# Altium footprint library Bumpered QFP - Centre Index.PcbLib: 9 footprints
Each footprint in its own frame and in the unit in brackets; x right, y up, seen from the top. Pads: shape width x height; smd on the part's side, far side on the other; paste and mask are expansions set on the pad; w line width, h text height; cw(c..) or ccw(c..) is an arc to the next point about the centre after c.
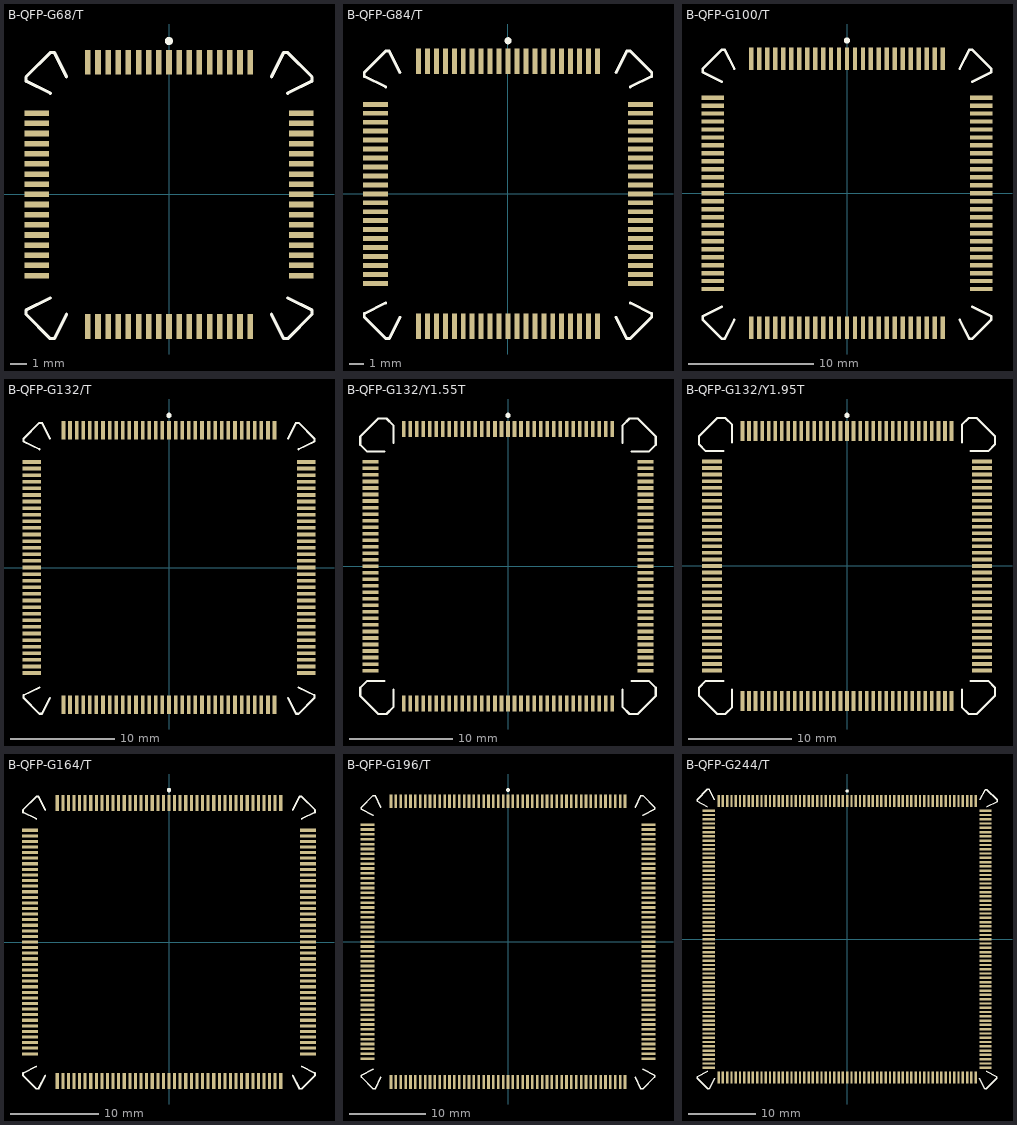
[diagram p0: the footprints below, top view; thin cyan lines are the x and y axes]

## B-QFP-G68/T [mm] "PQFP; 68 Leads; Body 14 x 14 mm; Pitch 0.635 mm"
height 3.04
pads (68):
  rect 0.35x1.55 smd: 1(0,8.275) 2(-0.635,8.275) 3(-1.27,8.275) 4(-1.905,8.275) 5(-2.54,8.275) 6(-3.175,8.275) 7(-3.81,8.275) 8(-4.445,8.275) 9(-5.08,8.275) 27(-5.08,-8.275) 28(-4.445,-8.275) 29(-3.81,-8.275) 30(-3.175,-8.275) 31(-2.54,-8.275) 32(-1.905,-8.275) 33(-1.27,-8.275) 34(-0.635,-8.275) 35(0,-8.275) 36(0.635,-8.275) 37(1.27,-8.275) 38(1.905,-8.275) 39(2.54,-8.275) 40(3.175,-8.275) 41(3.81,-8.275) 42(4.445,-8.275) 43(5.08,-8.275) 61(5.08,8.275) 62(4.445,8.275) 63(3.81,8.275) 64(3.175,8.275) 65(2.54,8.275) 66(1.905,8.275) 67(1.27,8.275) 68(0.635,8.275)
  rect 1.55x0.35 smd: 10(-8.275,5.08) 11(-8.275,4.445) 12(-8.275,3.81) 13(-8.275,3.175) 14(-8.275,2.54) 15(-8.275,1.905) 16(-8.275,1.27) 17(-8.275,0.635) 18(-8.275,0) 19(-8.275,-0.635) 20(-8.275,-1.27) 21(-8.275,-1.905) 22(-8.275,-2.54) 23(-8.275,-3.175) 24(-8.275,-3.81) 25(-8.275,-4.445) 26(-8.275,-5.08) 44(8.275,-5.08) 45(8.275,-4.445) 46(8.275,-3.81) 47(8.275,-3.175) 48(8.275,-2.54) 49(8.275,-1.905) 50(8.275,-1.27) 51(8.275,-0.635) 52(8.275,0) 53(8.275,0.635) 54(8.275,1.27) 55(8.275,1.905) 56(8.275,2.54) 57(8.275,3.175) 58(8.275,3.81) 59(8.275,4.445) 60(8.275,5.08)
Top Overlay:
  circle w0.25: c0,9.6 r0.125
  lines w0.2: -8.95,-7.247 -7.426,-6.485 ; -8.95,-7.229 -8.95,-7.501 -7.426,-9.025 -7.172,-9.025 -6.41,-7.501 ; -8.95,7.079 -8.95,7.351 -7.426,8.875 -7.172,8.875 -6.41,7.351 ; -8.95,7.097 -7.426,6.335 ; 6.41,-7.501 7.172,-9.025 7.426,-9.025 8.95,-7.501 8.95,-7.229 ; 6.41,7.351 7.172,8.875 7.426,8.875 8.95,7.351 8.95,7.079 ; 7.426,-6.485 8.95,-7.247 ; 7.426,6.335 8.95,7.097

## B-QFP-G84/T [mm] "PQFP; 84 Leads; Body 16.5 x 16.5 mm; Pitch 0.635 mm"
height 4.57
pads (84):
  rect 0.35x1.8 smd: 1(0,9.4) 2(-0.635,9.4) 3(-1.27,9.4) 4(-1.905,9.4) 5(-2.54,9.4) 6(-3.175,9.4) 7(-3.81,9.4) 8(-4.445,9.4) 9(-5.08,9.4) 10(-5.715,9.4) 11(-6.35,9.4) 33(-6.35,-9.4) 34(-5.715,-9.4) 35(-5.08,-9.4) 36(-4.445,-9.4) 37(-3.81,-9.4) 38(-3.175,-9.4) 39(-2.54,-9.4) 40(-1.905,-9.4) 41(-1.27,-9.4) 42(-0.635,-9.4) 43(0,-9.4) 44(0.635,-9.4) 45(1.27,-9.4) 46(1.905,-9.4) 47(2.54,-9.4) 48(3.175,-9.4) 49(3.81,-9.4) 50(4.445,-9.4) 51(5.08,-9.4) 52(5.715,-9.4) 53(6.35,-9.4) 75(6.35,9.4) 76(5.715,9.4) 77(5.08,9.4) 78(4.445,9.4) 79(3.81,9.4) 80(3.175,9.4) 81(2.54,9.4) 82(1.905,9.4) 83(1.27,9.4) 84(0.635,9.4)
  rect 1.8x0.35 smd: 12(-9.4,6.35) 13(-9.4,5.715) 14(-9.4,5.08) 15(-9.4,4.445) 16(-9.4,3.81) 17(-9.4,3.175) 18(-9.4,2.54) 19(-9.4,1.905) 20(-9.4,1.27) 21(-9.4,0.635) 22(-9.4,0) 23(-9.4,-0.635) 24(-9.4,-1.27) 25(-9.4,-1.905) 26(-9.4,-2.54) 27(-9.4,-3.175) 28(-9.4,-3.81) 29(-9.4,-4.445) 30(-9.4,-5.08) 31(-9.4,-5.715) 32(-9.4,-6.35) 54(9.4,-6.35) 55(9.4,-5.715) 56(9.4,-5.08) 57(9.4,-4.445) 58(9.4,-3.81) 59(9.4,-3.175) 60(9.4,-2.54) 61(9.4,-1.905) 62(9.4,-1.27) 63(9.4,-0.635) 64(9.4,0) 65(9.4,0.635) 66(9.4,1.27) 67(9.4,1.905) 68(9.4,2.54) 69(9.4,3.175) 70(9.4,3.81) 71(9.4,4.445) 72(9.4,5.08) 73(9.4,5.715) 74(9.4,6.35)
Top Overlay:
  circle w0.25: c0,10.86 r0.125
  lines w0.2: -10.2,-8.497 -8.676,-7.735 ; -10.2,-8.479 -10.2,-8.751 -8.676,-10.275 -8.422,-10.275 -7.66,-8.751 ; -10.2,8.329 -10.2,8.601 -8.676,10.125 -8.422,10.125 -7.66,8.601 ; -10.2,8.347 -8.676,7.585 ; 7.66,-8.751 8.422,-10.275 8.676,-10.275 10.2,-8.751 10.2,-8.479 ; 7.66,8.601 8.422,10.125 8.676,10.125 10.2,8.601 10.2,8.329 ; 8.676,-7.735 10.2,-8.497 ; 8.676,7.585 10.2,8.347

## B-QFP-G100/T [mm] "PQFP; 100 Leads; Body 19 x 19 mm; Pitch 0.635 mm"
height 4.57
pads (100):
  rect 0.35x1.8 smd: 1(0,10.7) 2(-0.635,10.7) 3(-1.27,10.7) 4(-1.905,10.7) 5(-2.54,10.7) 6(-3.175,10.7) 7(-3.81,10.7) 8(-4.445,10.7) 9(-5.08,10.7) 10(-5.715,10.7) 11(-6.35,10.7) 12(-6.985,10.7) 13(-7.62,10.7) 39(-7.62,-10.7) 40(-6.985,-10.7) 41(-6.35,-10.7) 42(-5.715,-10.7) 43(-5.08,-10.7) 44(-4.445,-10.7) 45(-3.81,-10.7) 46(-3.175,-10.7) 47(-2.54,-10.7) 48(-1.905,-10.7) 49(-1.27,-10.7) 50(-0.635,-10.7) 51(0,-10.7) 52(0.635,-10.7) 53(1.27,-10.7) 54(1.905,-10.7) 55(2.54,-10.7) 56(3.175,-10.7) 57(3.81,-10.7) 58(4.445,-10.7) 59(5.08,-10.7) 60(5.715,-10.7) 61(6.35,-10.7) 62(6.985,-10.7) 63(7.62,-10.7) 89(7.62,10.7) 90(6.985,10.7) 91(6.35,10.7) 92(5.715,10.7) 93(5.08,10.7) 94(4.445,10.7) 95(3.81,10.7) 96(3.175,10.7) 97(2.54,10.7) 98(1.905,10.7) 99(1.27,10.7) 100(0.635,10.7)
  rect 1.8x0.35 smd: 14(-10.7,7.62) 15(-10.7,6.985) 16(-10.7,6.35) 17(-10.7,5.715) 18(-10.7,5.08) 19(-10.7,4.445) 20(-10.7,3.81) 21(-10.7,3.175) 22(-10.7,2.54) 23(-10.7,1.905) 24(-10.7,1.27) 25(-10.7,0.635) 26(-10.7,0) 27(-10.7,-0.635) 28(-10.7,-1.27) 29(-10.7,-1.905) 30(-10.7,-2.54) 31(-10.7,-3.175) 32(-10.7,-3.81) 33(-10.7,-4.445) 34(-10.7,-5.08) 35(-10.7,-5.715) 36(-10.7,-6.35) 37(-10.7,-6.985) 38(-10.7,-7.62) 64(10.7,-7.62) 65(10.7,-6.985) 66(10.7,-6.35) 67(10.7,-5.715) 68(10.7,-5.08) 69(10.7,-4.445) 70(10.7,-3.81) 71(10.7,-3.175) 72(10.7,-2.54) 73(10.7,-1.905) 74(10.7,-1.27) 75(10.7,-0.635) 76(10.7,0) 77(10.7,0.635) 78(10.7,1.27) 79(10.7,1.905) 80(10.7,2.54) 81(10.7,3.175) 82(10.7,3.81) 83(10.7,4.445) 84(10.7,5.08) 85(10.7,5.715) 86(10.7,6.35) 87(10.7,6.985) 88(10.7,7.62)
Top Overlay:
  circle w0.25: c0,12.16 r0.125
  lines w0.2: -11.5,-9.797 -9.976,-9.035 ; -11.5,-9.779 -11.5,-10.051 -9.976,-11.575 -9.722,-11.575 -8.96,-10.051 ; -11.5,9.629 -11.5,9.901 -9.976,11.425 -9.722,11.425 -8.96,9.901 ; -11.5,9.647 -9.976,8.885 ; 8.96,-10.051 9.722,-11.575 9.976,-11.575 11.5,-10.051 11.5,-9.779 ; 8.96,9.901 9.722,11.425 9.976,11.425 11.5,9.901 11.5,9.629 ; 9.976,-9.035 11.5,-9.797 ; 9.976,8.885 11.5,9.647

## B-QFP-G132/T [mm] "PQFP; 132 Leads; Body 24 x 24 mm; Pitch 0.635 mm"
height 4.57
pads (132):
  rect 0.35x1.8 smd: 1(0,13.2) 2(-0.635,13.2) 3(-1.27,13.2) 4(-1.905,13.2) 5(-2.54,13.2) 6(-3.175,13.2) 7(-3.81,13.2) 8(-4.445,13.2) 9(-5.08,13.2) 10(-5.715,13.2) 11(-6.35,13.2) 12(-6.985,13.2) 13(-7.62,13.2) 14(-8.255,13.2) 15(-8.89,13.2) 16(-9.525,13.2) 17(-10.16,13.2) 51(-10.16,-13.2) 52(-9.525,-13.2) 53(-8.89,-13.2) 54(-8.255,-13.2) 55(-7.62,-13.2) 56(-6.985,-13.2) 57(-6.35,-13.2) 58(-5.715,-13.2) 59(-5.08,-13.2) 60(-4.445,-13.2) 61(-3.81,-13.2) 62(-3.175,-13.2) 63(-2.54,-13.2) 64(-1.905,-13.2) 65(-1.27,-13.2) 66(-0.635,-13.2) 67(0,-13.2) 68(0.635,-13.2) 69(1.27,-13.2) 70(1.905,-13.2) 71(2.54,-13.2) 72(3.175,-13.2) 73(3.81,-13.2) 74(4.445,-13.2) 75(5.08,-13.2) 76(5.715,-13.2) 77(6.35,-13.2) 78(6.985,-13.2) 79(7.62,-13.2) 80(8.255,-13.2) 81(8.89,-13.2) 82(9.525,-13.2) 83(10.16,-13.2) 117(10.16,13.2) 118(9.525,13.2) 119(8.89,13.2) 120(8.255,13.2) 121(7.62,13.2) 122(6.985,13.2) 123(6.35,13.2) 124(5.715,13.2) 125(5.08,13.2) 126(4.445,13.2) 127(3.81,13.2) 128(3.175,13.2) 129(2.54,13.2) 130(1.905,13.2) 131(1.27,13.2) 132(0.635,13.2)
  rect 1.8x0.35 smd: 18(-13.2,10.16) 19(-13.2,9.525) 20(-13.2,8.89) 21(-13.2,8.255) 22(-13.2,7.62) 23(-13.2,6.985) 24(-13.2,6.35) 25(-13.2,5.715) 26(-13.2,5.08) 27(-13.2,4.445) 28(-13.2,3.81) 29(-13.2,3.175) 30(-13.2,2.54) 31(-13.2,1.905) 32(-13.2,1.27) 33(-13.2,0.635) 34(-13.2,0) 35(-13.2,-0.635) 36(-13.2,-1.27) 37(-13.2,-1.905) 38(-13.2,-2.54) 39(-13.2,-3.175) 40(-13.2,-3.81) 41(-13.2,-4.445) 42(-13.2,-5.08) 43(-13.2,-5.715) 44(-13.2,-6.35) 45(-13.2,-6.985) 46(-13.2,-7.62) 47(-13.2,-8.255) 48(-13.2,-8.89) 49(-13.2,-9.525) 50(-13.2,-10.16) 84(13.2,-10.16) 85(13.2,-9.525) 86(13.2,-8.89) 87(13.2,-8.255) 88(13.2,-7.62) 89(13.2,-6.985) 90(13.2,-6.35) 91(13.2,-5.715) 92(13.2,-5.08) 93(13.2,-4.445) 94(13.2,-3.81) 95(13.2,-3.175) 96(13.2,-2.54) 97(13.2,-1.905) 98(13.2,-1.27) 99(13.2,-0.635) 100(13.2,0) 101(13.2,0.635) 102(13.2,1.27) 103(13.2,1.905) 104(13.2,2.54) 105(13.2,3.175) 106(13.2,3.81) 107(13.2,4.445) 108(13.2,5.08) 109(13.2,5.715) 110(13.2,6.35) 111(13.2,6.985) 112(13.2,7.62) 113(13.2,8.255) 114(13.2,8.89) 115(13.2,9.525) 116(13.2,10.16)
Top Overlay:
  circle w0.25: c0,14.65 r0.125
  lines w0.2: -14,-12.297 -12.476,-11.535 ; -14,-12.279 -14,-12.551 -12.476,-14.075 -12.222,-14.075 -11.46,-12.551 ; -14,12.129 -14,12.401 -12.476,13.925 -12.222,13.925 -11.46,12.401 ; -14,12.147 -12.476,11.385 ; 11.46,-12.551 12.222,-14.075 12.476,-14.075 14,-12.551 14,-12.279 ; 11.46,12.401 12.222,13.925 12.476,13.925 14,12.401 14,12.129 ; 12.476,-11.535 14,-12.297 ; 12.476,11.385 14,12.147

## B-QFP-G132/Y1.55T [mm] "Bumpered PQFP; 132 Leads; Pitch 0.635 mm;"
height 5.59
pads (132):
  rect 0.35x1.55 smd: 1(0,13.375) 2(-0.635,13.375) 3(-1.27,13.375) 4(-1.905,13.375) 5(-2.54,13.375) 6(-3.175,13.375) 7(-3.81,13.375) 8(-4.445,13.375) 9(-5.08,13.375) 10(-5.715,13.375) 11(-6.35,13.375) 12(-6.985,13.375) 13(-7.62,13.375) 14(-8.255,13.375) 15(-8.89,13.375) 16(-9.525,13.375) 17(-10.16,13.375) 51(-10.16,-13.375) 52(-9.525,-13.375) 53(-8.89,-13.375) 54(-8.255,-13.375) 55(-7.62,-13.375) 56(-6.985,-13.375) 57(-6.35,-13.375) 58(-5.715,-13.375) 59(-5.08,-13.375) 60(-4.445,-13.375) 61(-3.81,-13.375) 62(-3.175,-13.375) 63(-2.54,-13.375) 64(-1.905,-13.375) 65(-1.27,-13.375) 66(-0.635,-13.375) 67(0,-13.375) 68(0.635,-13.375) 69(1.27,-13.375) 70(1.905,-13.375) 71(2.54,-13.375) 72(3.175,-13.375) 73(3.81,-13.375) 74(4.445,-13.375) 75(5.08,-13.375) 76(5.715,-13.375) 77(6.35,-13.375) 78(6.985,-13.375) 79(7.62,-13.375) 80(8.255,-13.375) 81(8.89,-13.375) 82(9.525,-13.375) 83(10.16,-13.375) 117(10.16,13.375) 118(9.525,13.375) 119(8.89,13.375) 120(8.255,13.375) 121(7.62,13.375) 122(6.985,13.375) 123(6.35,13.375) 124(5.715,13.375) 125(5.08,13.375) 126(4.445,13.375) 127(3.81,13.375) 128(3.175,13.375) 129(2.54,13.375) 130(1.905,13.375) 131(1.27,13.375) 132(0.635,13.375)
  rect 1.55x0.35 smd: 18(-13.375,10.16) 19(-13.375,9.525) 20(-13.375,8.89) 21(-13.375,8.255) 22(-13.375,7.62) 23(-13.375,6.985) 24(-13.375,6.35) 25(-13.375,5.715) 26(-13.375,5.08) 27(-13.375,4.445) 28(-13.375,3.81) 29(-13.375,3.175) 30(-13.375,2.54) 31(-13.375,1.905) 32(-13.375,1.27) 33(-13.375,0.635) 34(-13.375,0) 35(-13.375,-0.635) 36(-13.375,-1.27) 37(-13.375,-1.905) 38(-13.375,-2.54) 39(-13.375,-3.175) 40(-13.375,-3.81) 41(-13.375,-4.445) 42(-13.375,-5.08) 43(-13.375,-5.715) 44(-13.375,-6.35) 45(-13.375,-6.985) 46(-13.375,-7.62) 47(-13.375,-8.255) 48(-13.375,-8.89) 49(-13.375,-9.525) 50(-13.375,-10.16) 84(13.375,-10.16) 85(13.375,-9.525) 86(13.375,-8.89) 87(13.375,-8.255) 88(13.375,-7.62) 89(13.375,-6.985) 90(13.375,-6.35) 91(13.375,-5.715) 92(13.375,-5.08) 93(13.375,-4.445) 94(13.375,-3.81) 95(13.375,-3.175) 96(13.375,-2.54) 97(13.375,-1.905) 98(13.375,-1.27) 99(13.375,-0.635) 100(13.375,0) 101(13.375,0.635) 102(13.375,1.27) 103(13.375,1.905) 104(13.375,2.54) 105(13.375,3.175) 106(13.375,3.81) 107(13.375,4.445) 108(13.375,5.08) 109(13.375,5.715) 110(13.375,6.35) 111(13.375,6.985) 112(13.375,7.62) 113(13.375,8.255) 114(13.375,8.89) 115(13.375,9.525) 116(13.375,10.16)
Top Overlay:
  circle w0.25: c0,14.7 r0.125
  lines w0.2: -12.02,-11.16 -13.717,-11.16 -14.387,-11.83 -14.387,-12.63 -12.63,-14.387 -11.83,-14.387 -11.16,-13.717 -11.16,-12.02 ; -12.02,11.16 -13.718,11.16 -14.387,11.83 -14.387,12.63 -12.63,14.388 -11.83,14.388 -11.16,13.718 -11.16,12.02 ; 11.16,-12.02 11.16,-13.717 11.83,-14.387 12.63,-14.387 14.387,-12.63 14.387,-11.83 13.718,-11.16 12.02,-11.16 ; 11.16,12.02 11.16,13.718 11.83,14.388 12.63,14.388 14.387,12.63 14.387,11.83 13.717,11.16 12.02,11.16

## B-QFP-G132/Y1.95T [mm] "PQFP; 132 Leads; Body 24 x 24 mm; Pitch 0.635 mm"
height 4.57
pads (132):
  rect 0.35x1.95 smd: 1(0,13.125) 2(-0.635,13.125) 3(-1.27,13.125) 4(-1.905,13.125) 5(-2.54,13.125) 6(-3.175,13.125) 7(-3.81,13.125) 8(-4.445,13.125) 9(-5.08,13.125) 10(-5.715,13.125) 11(-6.35,13.125) 12(-6.985,13.125) 13(-7.62,13.125) 14(-8.255,13.125) 15(-8.89,13.125) 16(-9.525,13.125) 17(-10.16,13.125) 51(-10.16,-13.125) 52(-9.525,-13.125) 53(-8.89,-13.125) 54(-8.255,-13.125) 55(-7.62,-13.125) 56(-6.985,-13.125) 57(-6.35,-13.125) 58(-5.715,-13.125) 59(-5.08,-13.125) 60(-4.445,-13.125) 61(-3.81,-13.125) 62(-3.175,-13.125) 63(-2.54,-13.125) 64(-1.905,-13.125) 65(-1.27,-13.125) 66(-0.635,-13.125) 67(0,-13.125) 68(0.635,-13.125) 69(1.27,-13.125) 70(1.905,-13.125) 71(2.54,-13.125) 72(3.175,-13.125) 73(3.81,-13.125) 74(4.445,-13.125) 75(5.08,-13.125) 76(5.715,-13.125) 77(6.35,-13.125) 78(6.985,-13.125) 79(7.62,-13.125) 80(8.255,-13.125) 81(8.89,-13.125) 82(9.525,-13.125) 83(10.16,-13.125) 117(10.16,13.125) 118(9.525,13.125) 119(8.89,13.125) 120(8.255,13.125) 121(7.62,13.125) 122(6.985,13.125) 123(6.35,13.125) 124(5.715,13.125) 125(5.08,13.125) 126(4.445,13.125) 127(3.81,13.125) 128(3.175,13.125) 129(2.54,13.125) 130(1.905,13.125) 131(1.27,13.125) 132(0.635,13.125)
  rect 1.95x0.35 smd: 18(-13.125,10.16) 19(-13.125,9.525) 20(-13.125,8.89) 21(-13.125,8.255) 22(-13.125,7.62) 23(-13.125,6.985) 24(-13.125,6.35) 25(-13.125,5.715) 26(-13.125,5.08) 27(-13.125,4.445) 28(-13.125,3.81) 29(-13.125,3.175) 30(-13.125,2.54) 31(-13.125,1.905) 32(-13.125,1.27) 33(-13.125,0.635) 34(-13.125,0) 35(-13.125,-0.635) 36(-13.125,-1.27) 37(-13.125,-1.905) 38(-13.125,-2.54) 39(-13.125,-3.175) 40(-13.125,-3.81) 41(-13.125,-4.445) 42(-13.125,-5.08) 43(-13.125,-5.715) 44(-13.125,-6.35) 45(-13.125,-6.985) 46(-13.125,-7.62) 47(-13.125,-8.255) 48(-13.125,-8.89) 49(-13.125,-9.525) 50(-13.125,-10.16) 84(13.125,-10.16) 85(13.125,-9.525) 86(13.125,-8.89) 87(13.125,-8.255) 88(13.125,-7.62) 89(13.125,-6.985) 90(13.125,-6.35) 91(13.125,-5.715) 92(13.125,-5.08) 93(13.125,-4.445) 94(13.125,-3.81) 95(13.125,-3.175) 96(13.125,-2.54) 97(13.125,-1.905) 98(13.125,-1.27) 99(13.125,-0.635) 100(13.125,0) 101(13.125,0.635) 102(13.125,1.27) 103(13.125,1.905) 104(13.125,2.54) 105(13.125,3.175) 106(13.125,3.81) 107(13.125,4.445) 108(13.125,5.08) 109(13.125,5.715) 110(13.125,6.35) 111(13.125,6.985) 112(13.125,7.62) 113(13.125,8.255) 114(13.125,8.89) 115(13.125,9.525) 116(13.125,10.16)
Top Overlay:
  circle w0.25: c0,14.65 r0.125
  lines w0.2: -12.02,-11.16 -13.718,-11.16 -14.388,-11.83 -14.388,-12.63 -12.63,-14.387 -11.83,-14.387 -11.16,-13.717 -11.16,-12.02 ; -12.02,11.16 -13.718,11.16 -14.388,11.83 -14.388,12.63 -12.63,14.388 -11.83,14.388 -11.16,13.718 -11.16,12.02 ; 11.16,-12.02 11.16,-13.717 11.83,-14.387 12.63,-14.387 14.387,-12.63 14.387,-11.83 13.717,-11.16 12.02,-11.16 ; 11.16,12.02 11.16,13.718 11.83,14.388 12.63,14.388 14.387,12.63 14.387,11.83 13.717,11.16 12.02,11.16

## B-QFP-G164/T [mm] "PQFP; 164 Leads; Body 29 x 29 mm; Pitch 0.635 mm"
height 4.75
pads (164):
  rect 0.35x1.8 smd: 1(0,15.8) 2(-0.635,15.8) 3(-1.27,15.8) 4(-1.905,15.8) 5(-2.54,15.8) 6(-3.175,15.8) 7(-3.81,15.8) 8(-4.445,15.8) 9(-5.08,15.8) 10(-5.715,15.8) 11(-6.35,15.8) 12(-6.985,15.8) 13(-7.62,15.8) 14(-8.255,15.8) 15(-8.89,15.8) 16(-9.525,15.8) 17(-10.16,15.8) 18(-10.795,15.8) 19(-11.43,15.8) 20(-12.065,15.8) 21(-12.7,15.8) 63(-12.7,-15.8) 64(-12.065,-15.8) 65(-11.43,-15.8) 66(-10.795,-15.8) 67(-10.16,-15.8) 68(-9.525,-15.8) 69(-8.89,-15.8) 70(-8.255,-15.8) 71(-7.62,-15.8) 72(-6.985,-15.8) 73(-6.35,-15.8) 74(-5.715,-15.8) 75(-5.08,-15.8) 76(-4.445,-15.8) 77(-3.81,-15.8) 78(-3.175,-15.8) 79(-2.54,-15.8) 80(-1.905,-15.8) 81(-1.27,-15.8) 82(-0.635,-15.8) 83(0,-15.8) 84(0.635,-15.8) 85(1.27,-15.8) 86(1.905,-15.8) 87(2.54,-15.8) 88(3.175,-15.8) 89(3.81,-15.8) 90(4.445,-15.8) 91(5.08,-15.8) 92(5.715,-15.8) 93(6.35,-15.8) 94(6.985,-15.8) 95(7.62,-15.8) 96(8.255,-15.8) 97(8.89,-15.8) 98(9.525,-15.8) 99(10.16,-15.8) 100(10.795,-15.8) 101(11.43,-15.8) 102(12.065,-15.8) 103(12.7,-15.8) 145(12.7,15.8) 146(12.065,15.8) 147(11.43,15.8) 148(10.795,15.8) 149(10.16,15.8) 150(9.525,15.8) 151(8.89,15.8) 152(8.255,15.8) 153(7.62,15.8) 154(6.985,15.8) 155(6.35,15.8) 156(5.715,15.8) 157(5.08,15.8) 158(4.445,15.8) 159(3.81,15.8) 160(3.175,15.8) 161(2.54,15.8) 162(1.905,15.8) 163(1.27,15.8) 164(0.635,15.8)
  rect 1.8x0.35 smd: 22(-15.8,12.7) 23(-15.8,12.065) 24(-15.8,11.43) 25(-15.8,10.795) 26(-15.8,10.16) 27(-15.8,9.525) 28(-15.8,8.89) 29(-15.8,8.255) 30(-15.8,7.62) 31(-15.8,6.985) 32(-15.8,6.35) 33(-15.8,5.715) 34(-15.8,5.08) 35(-15.8,4.445) 36(-15.8,3.81) 37(-15.8,3.175) 38(-15.8,2.54) 39(-15.8,1.905) 40(-15.8,1.27) 41(-15.8,0.635) 42(-15.8,0) 43(-15.8,-0.635) 44(-15.8,-1.27) 45(-15.8,-1.905) 46(-15.8,-2.54) 47(-15.8,-3.175) 48(-15.8,-3.81) 49(-15.8,-4.445) 50(-15.8,-5.08) 51(-15.8,-5.715) 52(-15.8,-6.35) 53(-15.8,-6.985) 54(-15.8,-7.62) 55(-15.8,-8.255) 56(-15.8,-8.89) 57(-15.8,-9.525) 58(-15.8,-10.16) 59(-15.8,-10.795) 60(-15.8,-11.43) 61(-15.8,-12.065) 62(-15.8,-12.7) 104(15.8,-12.7) 105(15.8,-12.065) 106(15.8,-11.43) 107(15.8,-10.795) 108(15.8,-10.16) 109(15.8,-9.525) 110(15.8,-8.89) 111(15.8,-8.255) 112(15.8,-7.62) 113(15.8,-6.985) 114(15.8,-6.35) 115(15.8,-5.715) 116(15.8,-5.08) 117(15.8,-4.445) 118(15.8,-3.81) 119(15.8,-3.175) 120(15.8,-2.54) 121(15.8,-1.905) 122(15.8,-1.27) 123(15.8,-0.635) 124(15.8,0) 125(15.8,0.635) 126(15.8,1.27) 127(15.8,1.905) 128(15.8,2.54) 129(15.8,3.175) 130(15.8,3.81) 131(15.8,4.445) 132(15.8,5.08) 133(15.8,5.715) 134(15.8,6.35) 135(15.8,6.985) 136(15.8,7.62) 137(15.8,8.255) 138(15.8,8.89) 139(15.8,9.525) 140(15.8,10.16) 141(15.8,10.795) 142(15.8,11.43) 143(15.8,12.065) 144(15.8,12.7)
Top Overlay:
  circle w0.25: c0,17.26 r0.125
  lines w0.2: -16.6,-14.897 -15.076,-14.135 ; -16.6,-14.879 -16.6,-15.151 -15.076,-16.675 -14.822,-16.675 -14.06,-15.151 ; -16.6,14.729 -16.6,15.001 -15.076,16.525 -14.822,16.525 -14.06,15.001 ; -16.6,14.747 -15.076,13.985 ; 14.06,-15.151 14.822,-16.675 15.076,-16.675 16.6,-15.151 16.6,-14.879 ; 14.06,15.001 14.822,16.525 15.076,16.525 16.6,15.001 16.6,14.729 ; 15.076,-14.135 16.6,-14.897 ; 15.076,13.985 16.6,14.747

## B-QFP-G196/T [mm] "PQFP; 196 Leads; Body 34 x 34 mm; Pitch 0.635 mm"
height 4.57
pads (196):
  rect 0.35x1.8 smd: 1(0,18.3) 2(-0.635,18.3) 3(-1.27,18.3) 4(-1.905,18.3) 5(-2.54,18.3) 6(-3.175,18.3) 7(-3.81,18.3) 8(-4.445,18.3) 9(-5.08,18.3) 10(-5.715,18.3) 11(-6.35,18.3) 12(-6.985,18.3) 13(-7.62,18.3) 14(-8.255,18.3) 15(-8.89,18.3) 16(-9.525,18.3) 17(-10.16,18.3) 18(-10.795,18.3) 19(-11.43,18.3) 20(-12.065,18.3) 21(-12.7,18.3) 22(-13.335,18.3) 23(-13.97,18.3) 24(-14.605,18.3) 25(-15.24,18.3) 75(-15.24,-18.3) 76(-14.605,-18.3) 77(-13.97,-18.3) 78(-13.335,-18.3) 79(-12.7,-18.3) 80(-12.065,-18.3) 81(-11.43,-18.3) 82(-10.795,-18.3) 83(-10.16,-18.3) 84(-9.525,-18.3) 85(-8.89,-18.3) 86(-8.255,-18.3) 87(-7.62,-18.3) 88(-6.985,-18.3) 89(-6.35,-18.3) 90(-5.715,-18.3) 91(-5.08,-18.3) 92(-4.445,-18.3) 93(-3.81,-18.3) 94(-3.175,-18.3) 95(-2.54,-18.3) 96(-1.905,-18.3) 97(-1.27,-18.3) 98(-0.635,-18.3) 99(0,-18.3) 100(0.635,-18.3) 101(1.27,-18.3) 102(1.905,-18.3) 103(2.54,-18.3) 104(3.175,-18.3) 105(3.81,-18.3) 106(4.445,-18.3) 107(5.08,-18.3) 108(5.715,-18.3) 109(6.35,-18.3) 110(6.985,-18.3) 111(7.62,-18.3) 112(8.255,-18.3) 113(8.89,-18.3) 114(9.525,-18.3) 115(10.16,-18.3) 116(10.795,-18.3) 117(11.43,-18.3) 118(12.065,-18.3) 119(12.7,-18.3) 120(13.335,-18.3) 121(13.97,-18.3) 122(14.605,-18.3) 123(15.24,-18.3) 173(15.24,18.3) 174(14.605,18.3) 175(13.97,18.3) 176(13.335,18.3) 177(12.7,18.3) 178(12.065,18.3) 179(11.43,18.3) 180(10.795,18.3) 181(10.16,18.3) 182(9.525,18.3) 183(8.89,18.3) 184(8.255,18.3) 185(7.62,18.3) 186(6.985,18.3) 187(6.35,18.3) 188(5.715,18.3) 189(5.08,18.3) 190(4.445,18.3) 191(3.81,18.3) 192(3.175,18.3) 193(2.54,18.3) 194(1.905,18.3) 195(1.27,18.3) 196(0.635,18.3)
  rect 1.8x0.35 smd: 26(-18.3,15.24) 27(-18.3,14.605) 28(-18.3,13.97) 29(-18.3,13.335) 30(-18.3,12.7) 31(-18.3,12.065) 32(-18.3,11.43) 33(-18.3,10.795) 34(-18.3,10.16) 35(-18.3,9.525) 36(-18.3,8.89) 37(-18.3,8.255) 38(-18.3,7.62) 39(-18.3,6.985) 40(-18.3,6.35) 41(-18.3,5.715) 42(-18.3,5.08) 43(-18.3,4.445) 44(-18.3,3.81) 45(-18.3,3.175) 46(-18.3,2.54) 47(-18.3,1.905) 48(-18.3,1.27) 49(-18.3,0.635) 50(-18.3,0) 51(-18.3,-0.635) 52(-18.3,-1.27) 53(-18.3,-1.905) 54(-18.3,-2.54) 55(-18.3,-3.175) 56(-18.3,-3.81) 57(-18.3,-4.445) 58(-18.3,-5.08) 59(-18.3,-5.715) 60(-18.3,-6.35) 61(-18.3,-6.985) 62(-18.3,-7.62) 63(-18.3,-8.255) 64(-18.3,-8.89) 65(-18.3,-9.525) 66(-18.3,-10.16) 67(-18.3,-10.795) 68(-18.3,-11.43) 69(-18.3,-12.065) 70(-18.3,-12.7) 71(-18.3,-13.335) 72(-18.3,-13.97) 73(-18.3,-14.605) 74(-18.3,-15.24) 124(18.3,-15.24) 125(18.3,-14.605) 126(18.3,-13.97) 127(18.3,-13.335) 128(18.3,-12.7) 129(18.3,-12.065) 130(18.3,-11.43) 131(18.3,-10.795) 132(18.3,-10.16) 133(18.3,-9.525) 134(18.3,-8.89) 135(18.3,-8.255) 136(18.3,-7.62) 137(18.3,-6.985) 138(18.3,-6.35) 139(18.3,-5.715) 140(18.3,-5.08) 141(18.3,-4.445) 142(18.3,-3.81) 143(18.3,-3.175) 144(18.3,-2.54) 145(18.3,-1.905) 146(18.3,-1.27) 147(18.3,-0.635) 148(18.3,0) 149(18.3,0.635) 150(18.3,1.27) 151(18.3,1.905) 152(18.3,2.54) 153(18.3,3.175) 154(18.3,3.81) 155(18.3,4.445) 156(18.3,5.08) 157(18.3,5.715) 158(18.3,6.35) 159(18.3,6.985) 160(18.3,7.62) 161(18.3,8.255) 162(18.3,8.89) 163(18.3,9.525) 164(18.3,10.16) 165(18.3,10.795) 166(18.3,11.43) 167(18.3,12.065) 168(18.3,12.7) 169(18.3,13.335) 170(18.3,13.97) 171(18.3,14.605) 172(18.3,15.24)
Top Overlay:
  circle w0.25: c0,19.76 r0.125
  lines w0.2: -19.1,-17.397 -17.576,-16.635 ; -19.1,-17.379 -19.1,-17.651 -17.576,-19.175 -17.322,-19.175 -16.56,-17.651 ; -19.1,17.229 -19.1,17.501 -17.576,19.025 -17.322,19.025 -16.56,17.501 ; -19.1,17.247 -17.576,16.485 ; 16.56,-17.651 17.322,-19.175 17.576,-19.175 19.1,-17.651 19.1,-17.379 ; 16.56,17.501 17.322,19.025 17.576,19.025 19.1,17.501 19.1,17.229 ; 17.576,-16.635 19.1,-17.397 ; 17.576,16.485 19.1,17.247

## B-QFP-G244/T [mm] "PQFP; 244 Leads; Body 45 x 45 mm; Pitch 0.635 mm"
height 4.57
pads (244):
  rect 0.35x1.8 smd: 1(0,20.5) 2(-0.635,20.5) 3(-1.27,20.5) 4(-1.905,20.5) 5(-2.54,20.5) 6(-3.175,20.5) 7(-3.81,20.5) 8(-4.445,20.5) 9(-5.08,20.5) 10(-5.715,20.5) 11(-6.35,20.5) 12(-6.985,20.5) 13(-7.62,20.5) 14(-8.255,20.5) 15(-8.89,20.5) 16(-9.525,20.5) 17(-10.16,20.5) 18(-10.795,20.5) 19(-11.43,20.5) 20(-12.065,20.5) 21(-12.7,20.5) 22(-13.335,20.5) 23(-13.97,20.5) 24(-14.605,20.5) 25(-15.24,20.5) 26(-15.875,20.5) 27(-16.51,20.5) 28(-17.145,20.5) 29(-17.78,20.5) 30(-18.415,20.5) 31(-19.05,20.5) 93(-19.05,-20.5) 94(-18.415,-20.5) 95(-17.78,-20.5) 96(-17.145,-20.5) 97(-16.51,-20.5) 98(-15.875,-20.5) 99(-15.24,-20.5) 100(-14.605,-20.5) 101(-13.97,-20.5) 102(-13.335,-20.5) 103(-12.7,-20.5) 104(-12.065,-20.5) 105(-11.43,-20.5) 106(-10.795,-20.5) 107(-10.16,-20.5) 108(-9.525,-20.5) 109(-8.89,-20.5) 110(-8.255,-20.5) 111(-7.62,-20.5) 112(-6.985,-20.5) 113(-6.35,-20.5) 114(-5.715,-20.5) 115(-5.08,-20.5) 116(-4.445,-20.5) 117(-3.81,-20.5) 118(-3.175,-20.5) 119(-2.54,-20.5) 120(-1.905,-20.5) 121(-1.27,-20.5) 122(-0.635,-20.5) 123(0,-20.5) 124(0.635,-20.5) 125(1.27,-20.5) 126(1.905,-20.5) 127(2.54,-20.5) 128(3.175,-20.5) 129(3.81,-20.5) 130(4.445,-20.5) 131(5.08,-20.5) 132(5.715,-20.5) 133(6.35,-20.5) 134(6.985,-20.5) 135(7.62,-20.5) 136(8.255,-20.5) 137(8.89,-20.5) 138(9.525,-20.5) 139(10.16,-20.5) 140(10.795,-20.5) 141(11.43,-20.5) 142(12.065,-20.5) 143(12.7,-20.5) 144(13.335,-20.5) 145(13.97,-20.5) 146(14.605,-20.5) 147(15.24,-20.5) 148(15.875,-20.5) 149(16.51,-20.5) 150(17.145,-20.5) 151(17.78,-20.5) 152(18.415,-20.5) 153(19.05,-20.5) 215(19.05,20.5) 216(18.415,20.5) 217(17.78,20.5) 218(17.145,20.5) 219(16.51,20.5) 220(15.875,20.5) 221(15.24,20.5) 222(14.605,20.5) 223(13.97,20.5) 224(13.335,20.5) 225(12.7,20.5) 226(12.065,20.5) 227(11.43,20.5) 228(10.795,20.5) 229(10.16,20.5) 230(9.525,20.5) 231(8.89,20.5) 232(8.255,20.5) 233(7.62,20.5) 234(6.985,20.5) 235(6.35,20.5) 236(5.715,20.5) 237(5.08,20.5) 238(4.445,20.5) 239(3.81,20.5) 240(3.175,20.5) 241(2.54,20.5) 242(1.905,20.5) 243(1.27,20.5) 244(0.635,20.5)
  rect 1.8x0.35 smd: 32(-20.5,19.05) 33(-20.5,18.415) 34(-20.5,17.78) 35(-20.5,17.145) 36(-20.5,16.51) 37(-20.5,15.875) 38(-20.5,15.24) 39(-20.5,14.605) 40(-20.5,13.97) 41(-20.5,13.335) 42(-20.5,12.7) 43(-20.5,12.065) 44(-20.5,11.43) 45(-20.5,10.795) 46(-20.5,10.16) 47(-20.5,9.525) 48(-20.5,8.89) 49(-20.5,8.255) 50(-20.5,7.62) 51(-20.5,6.985) 52(-20.5,6.35) 53(-20.5,5.715) 54(-20.5,5.08) 55(-20.5,4.445) 56(-20.5,3.81) 57(-20.5,3.175) 58(-20.5,2.54) 59(-20.5,1.905) 60(-20.5,1.27) 61(-20.5,0.635) 62(-20.5,0) 63(-20.5,-0.635) 64(-20.5,-1.27) 65(-20.5,-1.905) 66(-20.5,-2.54) 67(-20.5,-3.175) 68(-20.5,-3.81) 69(-20.5,-4.445) 70(-20.5,-5.08) 71(-20.5,-5.715) 72(-20.5,-6.35) 73(-20.5,-6.985) 74(-20.5,-7.62) 75(-20.5,-8.255) 76(-20.5,-8.89) 77(-20.5,-9.525) 78(-20.5,-10.16) 79(-20.5,-10.795) 80(-20.5,-11.43) 81(-20.5,-12.065) 82(-20.5,-12.7) 83(-20.5,-13.335) 84(-20.5,-13.97) 85(-20.5,-14.605) 86(-20.5,-15.24) 87(-20.5,-15.875) 88(-20.5,-16.51) 89(-20.5,-17.145) 90(-20.5,-17.78) 91(-20.5,-18.415) 92(-20.5,-19.05) 154(20.5,-19.05) 155(20.5,-18.415) 156(20.5,-17.78) 157(20.5,-17.145) 158(20.5,-16.51) 159(20.5,-15.875) 160(20.5,-15.24) 161(20.5,-14.605) 162(20.5,-13.97) 163(20.5,-13.335) 164(20.5,-12.7) 165(20.5,-12.065) 166(20.5,-11.43) 167(20.5,-10.795) 168(20.5,-10.16) 169(20.5,-9.525) 170(20.5,-8.89) 171(20.5,-8.255) 172(20.5,-7.62) 173(20.5,-6.985) 174(20.5,-6.35) 175(20.5,-5.715) 176(20.5,-5.08) 177(20.5,-4.445) 178(20.5,-3.81) 179(20.5,-3.175) 180(20.5,-2.54) 181(20.5,-1.905) 182(20.5,-1.27) 183(20.5,-0.635) 184(20.5,0) 185(20.5,0.635) 186(20.5,1.27) 187(20.5,1.905) 188(20.5,2.54) 189(20.5,3.175) 190(20.5,3.81) 191(20.5,4.445) 192(20.5,5.08) 193(20.5,5.715) 194(20.5,6.35) 195(20.5,6.985) 196(20.5,7.62) 197(20.5,8.255) 198(20.5,8.89) 199(20.5,9.525) 200(20.5,10.16) 201(20.5,10.795) 202(20.5,11.43) 203(20.5,12.065) 204(20.5,12.7) 205(20.5,13.335) 206(20.5,13.97) 207(20.5,14.605) 208(20.5,15.24) 209(20.5,15.875) 210(20.5,16.51) 211(20.5,17.145) 212(20.5,17.78) 213(20.5,18.415) 214(20.5,19.05)
Top Overlay:
  circle w0.25: c0,21.96 r0.125
  lines w0.2: -22.252,20.696 -20.728,22.22 -20.465,22.226 -19.703,20.702 ; -22.247,20.431 -20.723,19.669 ; -22.24,20.433 -22.24,20.705 ; -20.658,-19.592 -22.182,-20.354 -22.182,-20.626 -20.658,-22.15 -20.404,-22.15 -19.642,-20.626 ; 19.6,-20.636 20.362,-22.16 20.616,-22.16 22.14,-20.636 22.14,-20.364 20.616,-19.602 ; 19.667,20.635 20.429,22.159 20.683,22.159 22.207,20.635 22.207,20.363 20.683,19.601